# Altium schematic symbol library L99LD20Q6TR.SchLib: 2 symbols
Pins are listed as number, name and electrical type; pins without a type are passive.

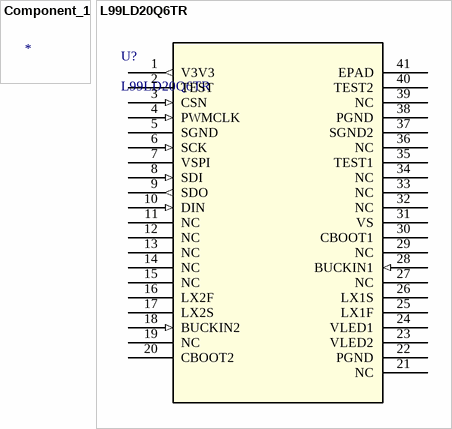
[diagram p0: symbols Component_1 to L99LD20Q6TR]

## Component_1
designator *  (value not drawn)

## L99LD20Q6TR
designator U?
No Description Available; Mfr_Name: STMicroelectronics; Copyright: Copyright (C) 2023 Ultra Librarian. All rights reserved.; Manufacturer_Part_Number: L99LD20Q6TR; RefDes: RefDes; Type: DEV
footprint QFN40L_6P15X6P15X0P5_STM
pins: 1 V3V3 (out), 2 TEST, 3 CSN (in), 4 PWMCLK (in), 5 SGND (power), 6 SCK (in), 7 VSPI, 8 SDI (in), 9 SDO (out), 10 DIN (in), 11 NC, 12 NC, 13 NC, 14 NC, 15 NC, 16 LX2F, 17 LX2S, 18 BUCKIN2 (in), 19 NC, 20 CBOOT2, 21 NC, 22 PGND (power), 23 VLED2, 24 VLED1, 25 LX1F, 26 LX1S, 27 NC, 28 BUCKIN1 (in), 29 NC, 30 CBOOT1, 31 VS, 32 NC, 33 NC, 34 NC, 35 TEST1, 36 NC, 37 SGND2 (power), 38 PGND (power), 39 NC, 40 TEST2, 41 EPAD (power)